# Altium schematic symbol library XL4005.SchLib: 12 symbols
Pins are listed as number, name and electrical type; pins without a type are passive.

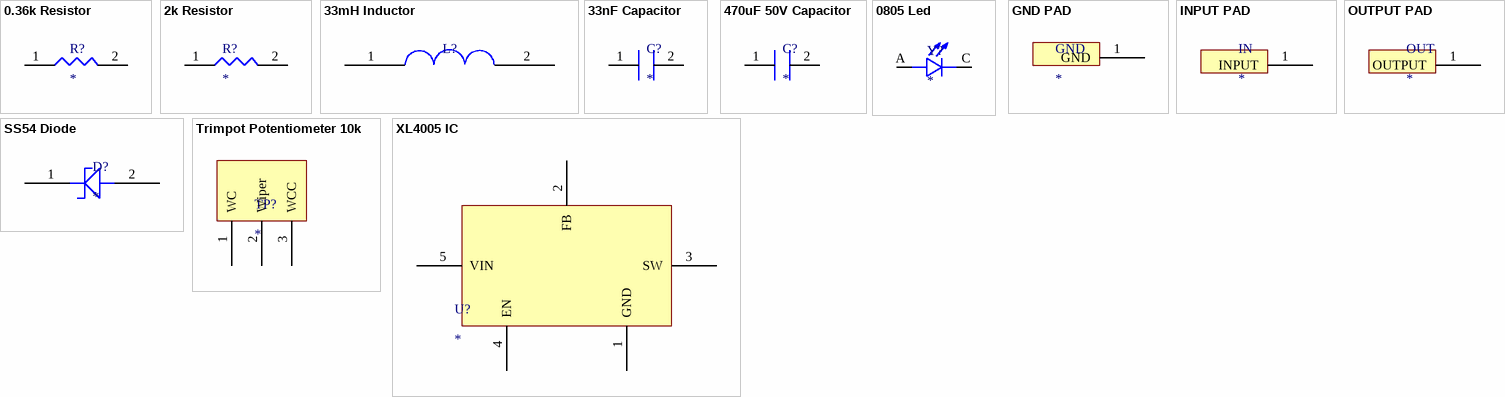
[diagram p0: symbols 0.36k Resistor to XL4005 IC]

## 0.36k Resistor
designator R?
footprint 1206 Resistor
pins: 1, 2

## 2k Resistor
designator R?
footprint 1206 Resistor
pins: 1, 2

## 33mH Inductor
designator L?
footprint 33mH 5A Inductor SMD
pins: 1, 2

## 33nF Capacitor
designator C?
footprint C1206 (33nF Capacitor)
pins: 1 C1206 33nF, 2

## 470uF 50V Capacitor
designator C?
footprint 470uF 50V Capacitor
pins: 1, 2

## 0805 Led
designator Y?
footprint 0805 Led
pins: A, C

## GND PAD
designator GND
footprint Edge Pads
pins: 1 GND

## INPUT PAD
designator IN
footprint Edge Pads
pins: 1 INPUT

## OUTPUT PAD
designator OUT
footprint Edge Pads
pins: 1 OUTPUT

## SS54 Diode
designator D?
footprint SS54 (Schottky Diode)
pins: 1 13, 2 12

## Trimpot Potentiometer 10k
designator TP?
footprint Trimmer Potentiometer 3296 (10k)
pins: 1 WC, 2 Wiper, 3 WCC

## XL4005 IC
designator U?
footprint XL4005
pins: 1 GND, 2 FB, 3 SW, 4 EN, 5 VIN